# Altium schematic symbol library NE555P.Schlib: 1 symbol
Pins are listed as number, name and electrical type; pins without a type are passive.

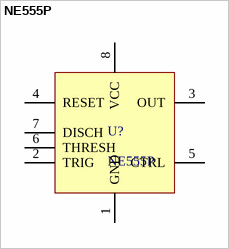
[diagram p0: symbol NE555P]

## NE555P
designator U?
555 Type, Timer/Oscillator (Single) IC 100kHz 8-PDIP
pins: 1 GND, 2 TRIG, 3 OUT, 4 RESET, 5 CTRL, 6 THRESH, 7 DISCH, 8 VCC